# Altium schematic symbol library SCH - PASSIVES - POLARISED CAPACITOR.Schlib: 1 symbol
Pins are listed as number, name and electrical type; pins without a type are passive.

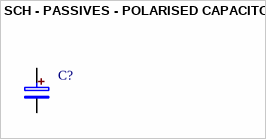
[diagram p0: symbol SCH - PASSIVES - POLARISED CAPACITOR]

## SCH - PASSIVES - POLARISED CAPACITOR
designator C?
pins: 1 +, 2 -